# EAGLE library part MSXCART (library msx-con)
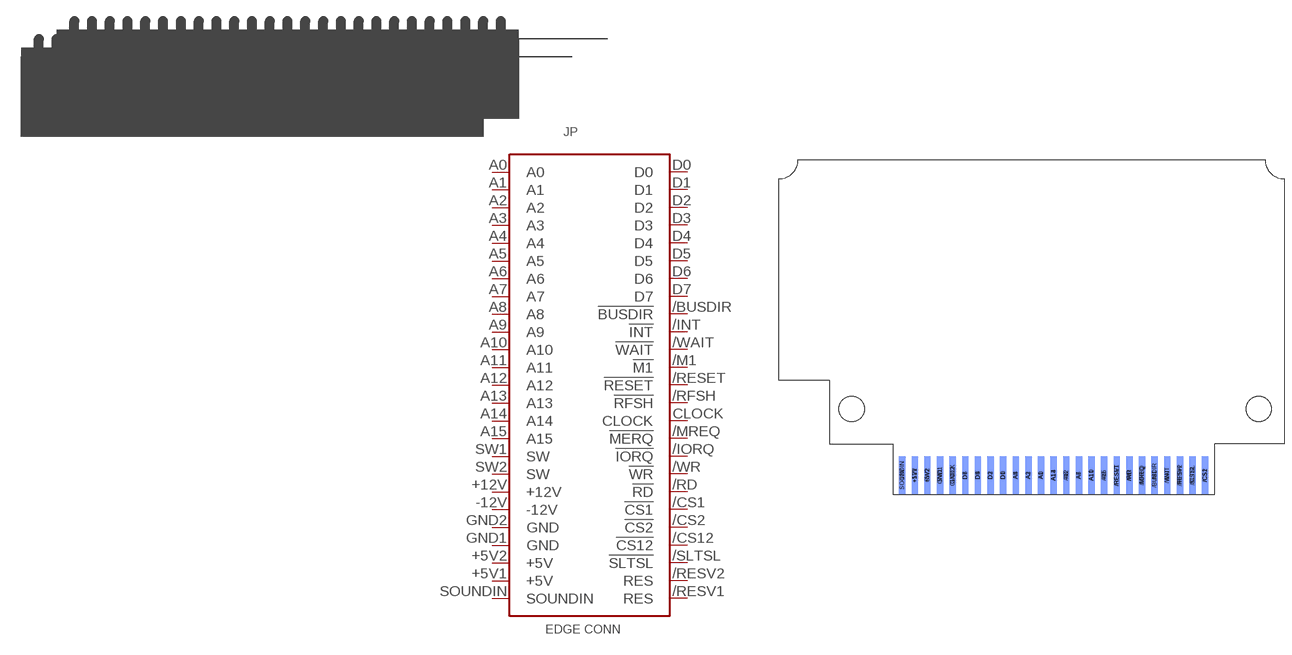
[diagram p0: symbol with the pads of MSXCART; footprint MSXCART]

Designator prefix JP

## MSXCART  [MSXCART]
+5V1  +5V  sup
+5V2  +5V  sup
+12V  +12V  sup
-12V  -12V  sup
/BUSDIR  !BUSDIR  in
/CS1  !CS1  out
/CS2  !CS2  out
/CS12  !CS12  out
/INT  !INT  oc
/IORQ  !IORQ  out
/M1  !M1  out
/MREQ  !MERQ  out
/RD  !RD  out
/RESET  !RESET  out
/RESV1  RES  nc
/RESV2  RES  nc
/RFSH  !RFSH  out
/SLTSL  !SLTSL  out
/WAIT  !WAIT  oc
/WR  !WR  out
A0  A0  out
A1  A1  out
A2  A2  out
A3  A3  out
A4  A4  out
A5  A5  out
A6  A6  out
A7  A7  out
A8  A8  out
A9  A9  out
A10  A10  out
A11  A11  out
A12  A12  out
A13  A13  out
A14  A14  out
A15  A15  out
CLOCK  CLOCK  out
D0  D0
D1  D1
D2  D2
D3  D3
D4  D4
D5  D5
D6  D6
D7  D7
GND1  GND  sup
GND2  GND  sup
SOUNDIN  SOUNDIN  pas
SW1  SW  pas
SW2  SW  pas

## Footprint MSXCART (pad centres in mm)
smd 1.27 x 7.62 bottom: +5V1 -24.13,-36.83; +5V2 -21.59,-36.83; /CS1 34.29,-36.83; /CS12 31.75,-36.83; /IORQ 21.59,-36.83; /M1 24.13,-36.83; /RESET 16.51,-36.83; /RESV2 29.21,-36.83; /WAIT 26.67,-36.83; /WR 19.05,-36.83; A1 1.27,-36.83; A3 -1.27,-36.83; A5 -3.81,-36.83; A7 8.89,-36.83; A9 13.97,-36.83; A11 11.43,-36.83; A12 6.35,-36.83; A14 3.81,-36.83; D1 -6.35,-36.83; D3 -8.89,-36.83; D5 -11.43,-36.83; D7 -13.97,-36.83; GND1 -19.05,-36.83; GND2 -16.51,-36.83; SOUNDIN -26.67,-36.83
smd 1.27 x 7.62: +12V -24.13,-36.83; -12V -26.67,-36.83; /BUSDIR 24.13,-36.83; /CS2 34.29,-36.83; /INT 26.67,-36.83; /MREQ 21.59,-36.83; /RD 19.05,-36.83; /RESV1 16.51,-36.83; /RFSH 29.21,-36.83; /SLTSL 31.75,-36.83; A0 1.27,-36.83; A2 -1.27,-36.83; A4 -3.81,-36.83; A6 8.89,-36.83; A8 6.35,-36.83; A10 11.43,-36.83; A13 3.81,-36.83; A15 13.97,-36.83; CLOCK -16.51,-36.83; D0 -6.35,-36.83; D2 -8.89,-36.83; D4 -11.43,-36.83; D6 -13.97,-36.83; SW1 -19.05,-36.83; SW2 -21.59,-36.83
hole 5.08 at -36.83,-23.495
hole 5.08 at 45.085,-23.495